# Altium footprint library CK Switches.PcbLib: 2 footprints
Each footprint in its own frame and in the unit in brackets; x right, y up, seen from the top. Pads: shape width x height; smd on the part's side, far side on the other; paste and mask are expansions set on the pad; w line width, h text height; cw(c..) or ccw(c..) is an arc to the next point about the centre after c.
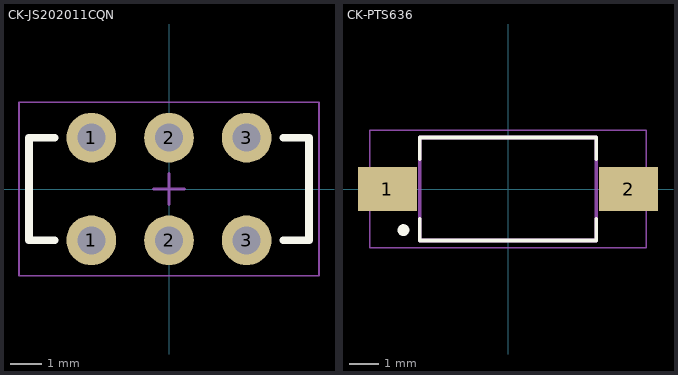
[diagram p0: the footprints below, top view; thin cyan lines are the x and y axes]

## CK-JS202011CQN [mm] "Slide Switch DPDT Through Hole"
height 5.5
pads (6):
  round 1.6 hole 0.9: 1(-2.5,-1.65) 1(-2.5,1.65) 2(0,-1.65) 2(0,1.65) 3(2.5,-1.65) 3(2.5,1.65)
Top Overlay:
  lines w0.254: -3.683,-1.65 -4.5,-1.65 -4.5,1.65 -3.683,1.65 ; 3.683,-1.65 4.5,-1.65 4.5,1.65 3.683,1.65
Mechanical 15:
  lines w0.05: -4.826,-2.794 4.826,-2.794 4.826,2.794 -4.826,2.794 -4.826,-2.794
  lines w0.1: -0.5,0 0.5,0 ; 0,-0.5 0,0.5
3D body "CK-JS202011CQN.stp": height 5.5, standoff -3, extent -4.5,-1.8 4.5,1.8

## CK-PTS636 [mm]
pads (2):
  rect 2x1.5 smd: 1(-4.1,0) 2(4.1,0)
Top Overlay:
  circle w0.2: c-3.556,-1.397 r0.1
  lines w0.127: -3,-1.014 -3,-1.75 3,-1.75 3,-1.014 ; -3,1.014 -3,1.75 3,1.75 3,1.014
Mechanical 13:
  circle w0.2: c-4.25,0 r0.1
  lines w0.127: -3,-1.75 -3,1.75 3,1.75 3,-1.75 -3,-1.75
Mechanical 15:
  lines w0.05: -4.699,-2 -4.699,2 4.699,2 4.699,-2 -4.699,-2